# EAGLE library part SMART_MEDIA (library newchips)
SmartMedia socket
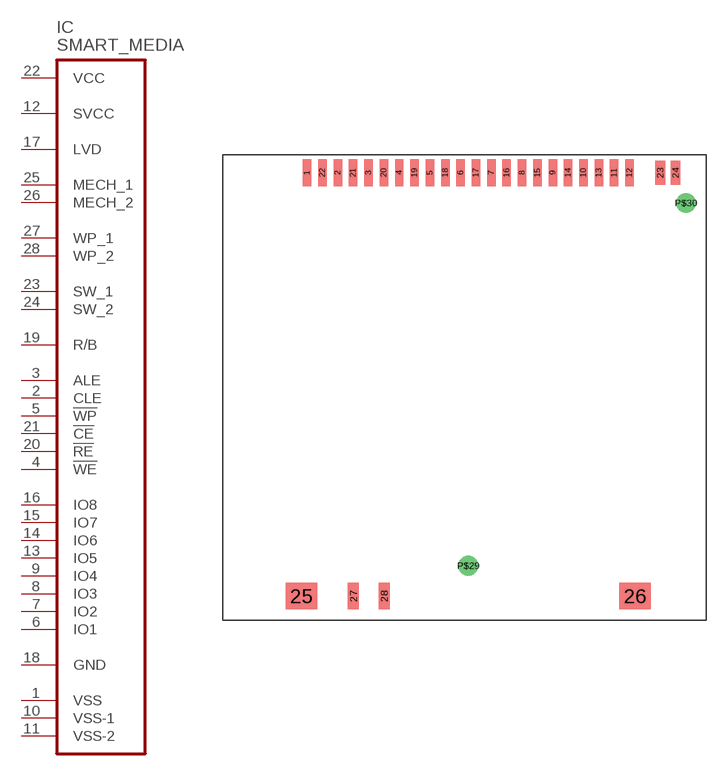
[diagram p5: symbol with the pads of MCR102; footprint MCR102]

Designator prefix IC

## SMART_MEDIA  [MCR102]
1  VSS  pas
2  CLE  in
3  ALE  in
4  !WE  in
5  !WP  in
6  IO1
7  IO2
8  IO3
9  IO4
10  VSS-1  pas
11  VSS-2  pas
12  SVCC  pas
13  IO5
14  IO6
15  IO7
16  IO8
17  LVD  pas
18  GND  pas
19  R/B  pas
20  !RE  in
21  !CE  in
22  VCC  pas
23  SW_1  pas
24  SW_2  pas
25  MECH_1  pas
26  MECH_2  pas
27  WP_1  pas
28  WP_2  pas

## Footprint MCR102 (pad centres in mm)
SmartMedia connector Hirose MCR102
smd 0.7 x 2.2: 1 0,0; 2 2.54,0; 3 5.08,0; 4 7.62,0; 5 10.16,0; 6 12.7,0; 7 15.24,0; 8 17.78,0; 9 20.32,0; 10 22.86,0; 11 25.4,0; 12 26.67,0; 13 24.13,0; 14 21.59,0; 15 19.05,0; 16 16.51,0; 17 13.97,0; 18 11.43,0; 19 8.89,0; 20 6.35,0; 21 3.81,0; 22 1.27,0
smd 0.8 x 1.95: 23 29.21,0; 24 30.48,0
smd 2.6 x 2.2: 25 -0.465,-35; 26 27.135,-35
smd 0.9 x 2.2: 27 3.83,-35; 28 6.37,-35
drill 1.1 pad 1.016 round: P$29 13.335,-32.5; P$30 31.335,-2.5